# EAGLE library part TB67H303HG (library TB67H303HG)
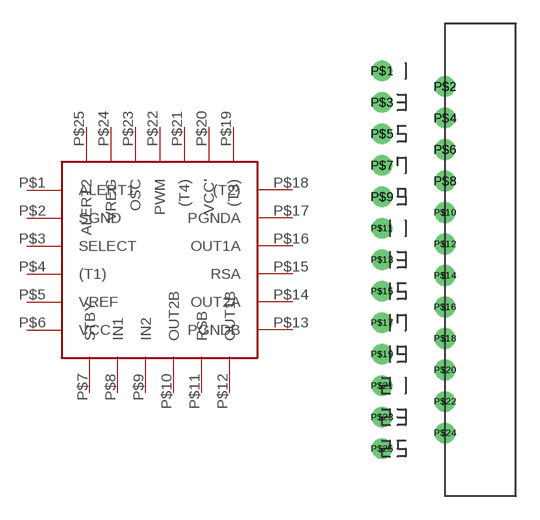
[diagram p0: symbol with the pads of TB67H303HG; footprint TB67H303HG]

Designator prefix TB67H303HG

## TB67H303HG  [TB67H303HG]
P$1  ALERT1
P$2  SGND
P$3  SELECT
P$4  (T1)
P$5  VREF
P$6  VCC
P$7  STBY
P$8  IN1
P$9  IN2
P$10  OUT2B
P$11  RSB
P$12  OUT1B
P$13  PGNDB
P$14  OUT2A
P$15  RSA
P$16  OUT1A
P$17  PGNDA
P$18  (T2)
P$19  (T3)
P$20  VCC'
P$21  (T4)
P$22  PWM
P$23  OSC
P$24  VREG
P$25  ALERT2

## Footprint TB67H303HG (pad centres in mm)
drill 0.8: P$1 -4,12; P$2 0,11; P$3 -4,10; P$4 0,9; P$5 -4,8; P$6 0,7; P$7 -4,6; P$8 0,5; P$9 -4,4; P$10 0,3; P$11 -4,2; P$12 0,1; P$13 -4,0; P$14 0,-1; P$15 -4,-2; P$16 0,-3; P$17 -4,-4; P$18 0,-5; P$19 -4,-6; P$20 0,-7; P$21 -4,-8; P$22 0,-9; P$23 -4,-10; P$24 0,-11; P$25 -4,-12